# Altium schematic symbol library ST25RU3993_RF_MODULE.SCHLIB: 256 symbols (part 1 of 8)
Pins are listed as number, name and electrical type; pins without a type are passive.

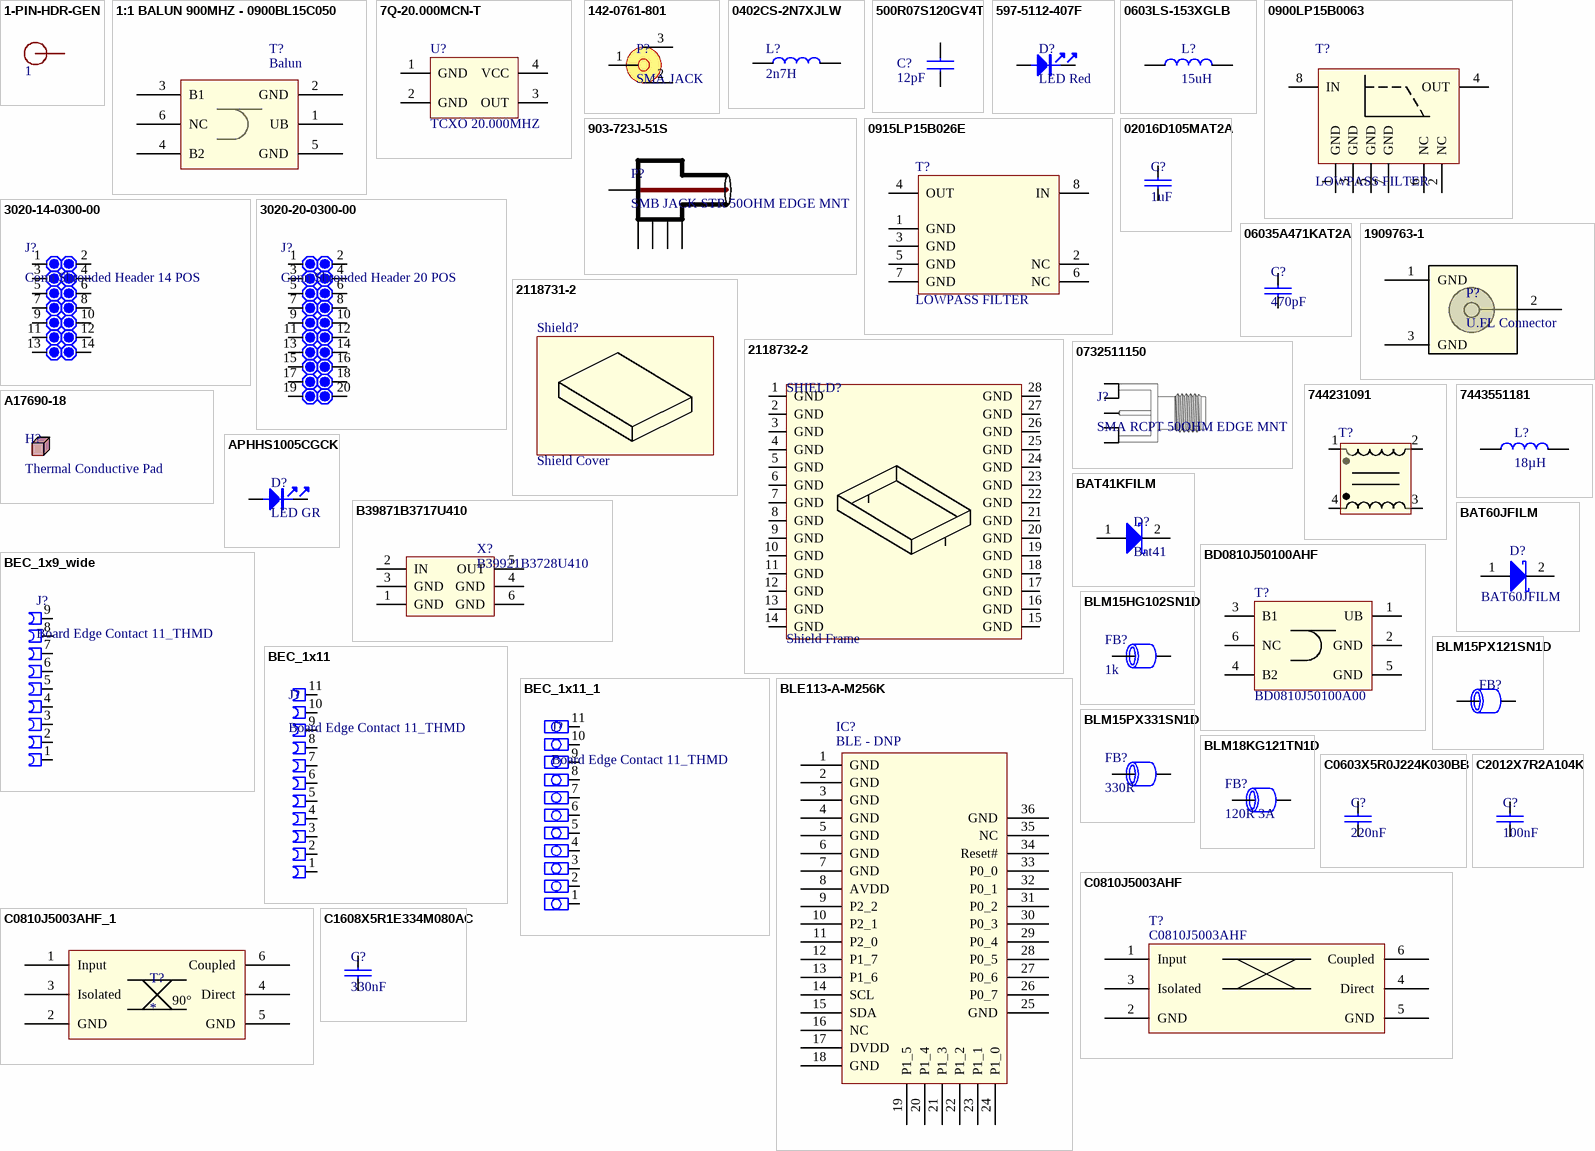
[diagram p0: symbols 1-PIN-HDR-GEN to C2012X7R2A104K]

## 1-PIN-HDR-GEN
designator 1  (value not drawn)
Generic through hole; GateName_1: G$1; SymbolName_1: 1X1-GENERIC; LibraryName: Ziggi; DeviceSetName: 1-PIN-HDR-GEN
footprint 1X01-PIN
pins: 1 P$1

## 1:1 BALUN 900MHZ - 0900BL15C050
designator T?, comment Balun
1:1 BALUN- 900MHZ 50/50 Ohm; Manufacturer: Johanson Technology Inc; Manufacturer Part Number: 0900BL15C050E; Component_Description: BALUN GSM/DCS/PCS/CDMA 900MHZ; Frequency Range: 800 ~ 1000MHz; Phase Difference: 180° ±10; Insertion Loss (Max): 1.2dB; Return Loss (Min): 9.5dB; Supplier 1: Digi-Key; Supplier Part Number 1: 712-1022-1-ND; RoHS: RoHS Compliant; Category: RF/IF and RFID; Stock 1: 0; Pricing 1: 1=0.8, 10=0.672, 25=0.5584, 100=0.4568, 250=0.39336, 500=0.36796, 1000=0.29184 (EUR); Impedance - Unbalanced/Balanced: 50 / 50 Ohm; Package / Case: 0805 (2012 Metric); Mounting Type: Surface Mount; Packaging: Cut Tape (CT); ComponentLink1URL: http://www.johansontechnology.com/images/stories/ip/baluns/JTI_Balun-0900BL15C050_2005-06.pdf; ComponentLink1Description: http://www.johansontechnology.com/images/stories/ip/baluns/JTI_Balun-0900BL15C050_2005-06.pdf
footprint JTI-0900BL15C050 (900 MHz Balun 1:1)
pins: 1 UB, 2 GND, 3 B1, 4 B2, 5 GND, 6 NC

## 7Q-20.000MCN-T
designator U?, comment TCXO 20.000MHZ
OSC TCXO 20.000MHZ CLPD SNWV SMD; Manufacturer: Taitien; Manufacturer Part Number: TXEAADSANF-20.000000; Output: Clipped Sine Wave; Voltage - Supply: 2.8 V ~ 3.3 V; Frequency Stability: ±500ppb; Current - Supply (Max): 2mA; Supplier 1: Digi-Key; Supplier Part Number 1: 1664-1240-1-ND; RoHS: RoHS Compliant; Category: Crystals, Oscillators, Resonators; Stock: 0; Pricing: 1=2.44, 10=2.382, 50=2.2684, 100=1.9848, 500=1.92808 (EUR); Packaging: Cut Tape (CT); Part Status: Active; Type: VCTCXO; Function: -; Absolute Pull Range (APR): -; Operating Temperature: -30°C ~ 85°C; Ratings: -; Mounting Type: Surface Mount; Package / Case: 4-SMD, No Lead; Size / Dimension: 0.126" L x 0.098" W (3.20mm x 2.50mm); Height - Seated (Max): 0.039" (1.00mm); Current - Supply (Disable) (Max): -; ComponentLink1URL: http://www.taitien.com/wp-content/uploads/2015/12/XO-0076_TX.pdf; ComponentLink1Description: http://www.taitien.com/wp-content/uploads/2015/12/XO-0076_TX.pdf
footprint 7Q-20.000MCN-T (XC  7Q-20.000MCN-T  TCXO, 20MHZ, 3.2 X 2.5MM, CLIPPED SINE)
footprint 7Q-20.000MCN-T (Temperature Compensated Crystal Oscillator)
pins: 1 GND, 2 GND, 3 OUT, 4 VCC

## 142-0761-801
designator P?, comment SMA JACK
CONN SMA JACK STR 50OHM EDGE MNT; Manufacturer: Cinch Connectivity Solutions Johnson; Manufacturer Part Number: 142-0761-801; Connector Type: Jack, Female Socket; Contact Termination: Solder; Frequency - Max: 26.5GHz; Body Material: Brass; Body Finish: Gold; Dielectric Material: Polytetrafluoroethylene (PTFE); Center Contact Material: Beryllium Copper; Voltage Rating: 170V; Mating Cycles: 500; Supplier 1: Digi-Key; Supplier Part Number 1: J797-ND; RoHS: RoHS Compliant; Category: Connectors, Interconnects; Stock: 14705; Pricing: 1=6.84, 10=6.56, 25=5.9892, 50=5.704, 100=5.4187, 250=4.84836, 500=4.56314, 1000=3.99276 (EUR); Packaging: Bulk; Part Status: Active; Connector Style: SMA; Shield Termination: Solder; Impedance: 50 Ohm; Mounting Type: Board Edge, End Launch; Mounting Feature: -; Cable Group: -; Fastening Type: Threaded; Features: -; Housing Color: Gold; Ingress Protection: -; Includes: -; Center Contact Plating: Gold; Operating Temperature: -65°C ~ 165°C; Insertion Loss: -; ComponentLink1URL: http://www.belfuse.com/resources/Johnson/drawings/dr-142-0761-801.pdf; ComponentLink1Description: http://www.belfuse.com/resources/Johnson/drawings/dr-142-0761-801.pdf
footprint SOCKET_TH_SMA_EDGE (Johnson Component 142-0761-821)
pins: 1, 2, 3

## 0402CS-2N7XJLW
designator L?, comment 2n7H
COILCRAFT - 0402CS-2N7XJLW - HF-INDUKTIVIT 2.7NH, 5%,10.4GHZ SMD; Induktivität: 2.7; DC-Nennstrom: 640; Bauform: 0402 [Metrisch 1005]; Bauart der Induktivität: Drahtgewickelt; DC-Widerstand, max.: 0.12; Eigenresonanzfrequenz, min.: 10.4; Verpackung: Gurtabschnitt; SVHC: No SVHC (12-Jan-2017); Qualifizierungsstandard der Automobilindustrie: AEC-Q200; Supplier 1: Farnell; Manufacturer: COILCRAFT; Manufacturer Part Number: 0402CS-2N7XJLW; RoHS: Y-EX; Stock: 2075; Pricing 1: 1=1.11, 200=0.746, 500=0.497, 1000=0.348 (EUR); Produktpalette: Baureihe 0402; Induktivitätstoleranz: ± 5%; ComponentLink1URL: http://www.farnell.com/datasheets/1681871.pdf; ComponentLink1Description: http://www.farnell.com/datasheets/1681871.pdf; Supplier Part Number 1: 2285704
footprint L0402-RF
pins: 1, 2

## 500R07S120GV4T
designator C?, comment 12pF
CAP CER 12PF 50V NP0 0402; Manufacturer: Johanson Technology Inc.; Manufacturer Part Number: 500R07S120GV4T; Tolerance: ±2%; Temperature Coefficient: C0G, NP0; Supplier 1: Digi-Key; Supplier Part Number 1: 712-1256-1-ND; RoHS: RoHS Compliant; Category: Capacitors; Stock 1: 94533; Pricing 1: 1=0.31, 10=0.215, 25=0.1764, 50=0.1504, 100=0.129, 250=0.10748, 500=0.09674, 1000=0.0817, 5000=0.0731 (EUR); Packaging: Cut Tape (CT); Part Status: Active; Capacitance: 12pF; Voltage - Rated: 50V; Operating Temperature: -55°C ~ 125°C; Features: High Q, Low Loss; Ratings: -; Applications: RF, Microwave, High Frequency; Mounting Type: Surface Mount, MLCC; Package / Case: 0402 (1005 Metric); Size / Dimension: 0.040" L x 0.020" W (1.02mm x 0.51mm); Height - Seated (Max): -; Thickness (Max): 0.024" (0.61mm); Lead Spacing: -; Lead Style: -; ComponentLink1URL: http://www.johansontechnology.com/downloads/JTI-CAT-MLCC-HighQ.pdf; ComponentLink1Description: http://www.johansontechnology.com/downloads/JTI-CAT-MLCC-HighQ.pdf
footprint C0402-RF
pins: 1, 2

## 597-5112-407F
designator D?, comment LED Red
LED Uni-Color Red 660nm 2-Pin Chip 0603(1608Metric) T/R; Manufacturer: Dialight; Manufacturer Part Number: 597-5112-407F; Lens Color: White; Luminous Intensity: 11.7mcd; Viewing Angle: 152°; Forward Voltage: 1.7V; Lens Style: Diffused,Rectangular; Forward Current: 20mA; Lens Transparency: Diffused; Dominant Wavelength: 647nm; Number of Elements: 1; Power Dissipation: 57.5mW; Supplier 1: Arrow; Supplier Part Number 1: 597-5112-407F; Stock: 1175; Pricing: 1 = 0.63390, 10 = 0.42340, 25 = 0.42280, 100 = 0.28560, 250 = 0.28540, 500 = 0.28520, 1000 = 0.22780 (USD); Mount: Surface Mount; Case/Package: 0603; Number of Pins: 2; Color: Red; Case Code (Metric): 1608; Case Code (Imperial): 0603; Min Operating Temperature: -30°C; Max Operating Temperature: 85°C; Wavelength: 660nm; Packaging: Tape and Reel; Package Quantity: 1; Illumination Color: Red; Test Current: 20mA; Voltage Rating (DC): 1.7V; Input Current: 20mA; Number of LEDs: 1; Length: 1.6mm; Height: 0.7mm; Width: 0.8mm; Depth: 0.8mm; Radiation Hardening: No; REACH SVHC: No SVHC; Lead Free: Lead Free; ComponentLink1URL: http://www.dialightsignalsandcomponents.com/Assets/Brochures_And_Catalogs/Indication/SMT_selector_guide.pdf; ComponentLink1Description: http://www.dialightsignalsandcomponents.com/Assets/Brochures_And_Catalogs/Indication/SMT_selector_guide.pdf; ComponentLink2URL: http://www.dialight.com/Assets/Brochures_And_Catalogs/Indication/597-xxxx-4xx.pdf; ComponentLink2Description: http://www.dialight.com/Assets/Brochures_And_Catalogs/Indication/597-xxxx-4xx.pdf; ComponentLink3URL: http://www.mouser.com/ds/2/109/SMT_selector_guide-267443.pdf; ComponentLink3Description: http://www.mouser.com/ds/2/109/SMT_selector_guide-267443.pdf; ComponentLink4URL: http://www.onlinecomponents.com/productFiles/mf-DIA/597-xxxx-4xx.pdf; ComponentLink4Description: http://www.onlinecomponents.com/productFiles/mf-DIA/597-xxxx-4xx.pdf; ComponentLink5URL: https://www.verical.com/server-webapp/html/getDatasheet?partID=87981; ComponentLink5Description: https://www.verical.com/server-webapp/html/getDatasheet?partID=87981; ComponentLink6URL: http://datasheet.octopart.com/597-5112-407F-Dialight-datasheet-5312680.pdf; ComponentLink6Description: http://datasheet.octopart.com/597-5112-407F-Dialight-datasheet-5312680.pdf; ComponentLink7URL: http://datasheet.octopart.com/597-5112-407F-Dialight-datasheet-12521332.pdf; ComponentLink7Description: http://datasheet.octopart.com/597-5112-407F-Dialight-datasheet-12521332.pdf; ComponentLink8URL: http://datasheet.octopart.com/597-5112-407F-Dialight-datasheet-17224103.pdf; ComponentLink8Description: http://datasheet.octopart.com/597-5112-407F-Dialight-datasheet-17224103.pdf; ComponentLink9URL: http://datasheet.octopart.com/597-5112-407F-Dialight-datasheet-158501.pdf; ComponentLink9Description: http://datasheet.octopart.com/597-5112-407F-Dialight-datasheet-158501.pdf; ComponentLink10URL: http://datasheet.octopart.com/5975112407F-Dialight-datasheet-45646.pdf; ComponentLink10Description: http://datasheet.octopart.com/5975112407F-Dialight-datasheet-45646.pdf
footprint 597-5112-407F (0603 Single Color LED Red)
pins: 1, 2

## 0603LS-153XGLB
designator L?, comment 15uH
COILCRAFT - 0603LS-153XGLB - HF-INDUKTIVIT 15UH, 2%, 23MHZ SMD; Induktivität: 15; DC-Nennstrom: 170; Bauform - Hochfrequenzinduktivität: 0603 [Metrisch 1608]; Bauart der Induktivität: Drahtgewickelt; DC-Widerstand, max.: 7.1; Eigenresonanzfrequenz, min.: 23; SVHC: No SVHC (12-Jan-2017); Verpackung: Gurtabschnitt<!--FANDB--><div class="features-and-benefits-container"></div>; Supplier 1: Farnell; Supplier Part Number 1: 2286278; Manufacturer: COILCRAFT; Manufacturer Part Number: 0603LS-153XGLB; RoHS: Y-EX; Pricing: 1=1.26, 200=0.897, 500=0.688 (EUR); Produktpalette: Baureihe 0603; Induktivitätstoleranz: ± 2%; Bauform - Induktivität: 0603 [Metrisch 1608]; ComponentLink1URL: http://www.farnell.com/datasheets/1681882.pdf; ComponentLink1Description: http://www.farnell.com/datasheets/1681882.pdf
footprint L0603-ss (0603LS Surface Mount Inductors)
pins: 1, 2

## 0900LP15B0063
designator T?, comment LOWPASS FILTER
FILTER LOWPASS 863-960MHZ; Manufacturer: Johanson Technology Inc.; Manufacturer Part Number: 0900LP15B0063E; Supplier 1: Digi-Key; Supplier Part Number 1: 712-1635-1-ND; RoHS: RoHS Compliant; Category: Filters; Stock: 11994; Pricing: 1=0.44, 10=0.404, 25=0.3852, 50=0.373, 100=0.3605, 250=0.34176, 500=0.28586, 1000=0.22184 (EUR); Part Status: Active; ComponentLink1URL: https://www.johansontechnology.com/datasheets/low-pass-filters/0900LP15B0063.pdf; ComponentLink1Description: https://www.johansontechnology.com/datasheets/low-pass-filters/0900LP15B0063.pdf
footprint JTI-0900LP15B0063 (900 MHz Low Pass Filter)
pins: 1 GND, 2 NC, 3 GND, 4 OUT, 5 GND, 6 NC, 7 GND, 8 IN

## 903-723J-51S
designator P?, comment SMB JACK STR 50OHM EDGE MNT
CONN SMB JACK STR 50OHM EDGE MNT; Manufacturer: Amphenol RF Division; Manufacturer Part Number: 903-723J-51S; Connector Type: Jack, Male Pin; Contact Termination: Solder; Shield Termination: Crimp; Body Material: Zinc Die Cast; Body Finish: Tin; Center Contact Plating: Gold; Dielectric Material: Polytetrafluoroethylene (PTFE); Center Contact Material: Brass; Mating Cycles: 100; Insertion Loss: 0.3dB; Supplier 1: Digi-Key; Supplier Part Number 1: 903-723J-51S-ND; RoHS: RoHS Compliant; Category: Connectors, Interconnects; Stock: 0; Pricing: 1000=1.94114 (EUR); Packaging: Bulk; Part Status: Active; Connector Style: SMB; Impedance: 50 Ohm; Mounting Type: Board Edge, End Launch; Mounting Feature: -; Cable Group: -; Fastening Type: Snap-On; Features: -; Housing Color: Silver; Ingress Protection: -; Includes: -; Operating Temperature: -65°C ~ 165°C; ComponentLink1URL: http://www.amphenolrf.com/media/downloads/87/C903-723J-51S.pdf; ComponentLink1Description: http://www.amphenolrf.com/media/downloads/87/C903-723J-51S.pdf
footprint 903-723J-51S (Amphenol - SOCKET_TH_SMB_EDGE)
pins: 1, 2, 3, 4, 5

## 0915LP15B026E
designator T?, comment LOWPASS FILTER
FILTER LOWPASS GSM/CDMA 915MHZ; Manufacturer: Johanson Technology Inc.; Manufacturer Part Number: 0915LP15B026E; Frequency: 915MHz Center; Bandwidth: 26MHz; Insertion Loss: 0.5dB; Supplier 1: Digi-Key; Supplier Part Number 1: 712-1122-1-ND; RoHS: RoHS Compliant; Category: Filters; Stock 1: 3000; Pricing 1: 1=0.42, 10=0.396, 25=0.3776, 50=0.3654, 100=0.3532, 250=0.33496, 500=0.28014, 1000=0.21741 (EUR); Packaging: Cut Tape (CT); Part Status: Active; Filter Type: Low Pass; Ripple: -; Package / Case: 0805 (2012 Metric), 8 PC Pad; Mounting Type: Surface Mount; Height (Max): 0.037" (0.95mm); Size / Dimension: 0.079" L x 0.049" W (2.00mm x 1.25mm); ComponentLink1URL: http://www.johansontechnology.com/datasheets/low-pass-filters/0915LP15B026.pdf; ComponentLink1Description: http://www.johansontechnology.com/datasheets/low-pass-filters/0915LP15B026.pdf
footprint JTI-0915LP15B026 (915 MHz Low Pass Filter)
pins: 1 GND, 2 NC, 3 GND, 4 OUT, 5 GND, 6 NC, 7 GND, 8 IN

## 02016D105MAT2A
designator C?, comment 1uF
CAP CER 1UF 6.3V X5R 0201; Manufacturer: AVX Corporation; Manufacturer Part Number: 02016D105MAT2A; Tolerance: ±20%; Notification: Current market demand for these product types have resulted in fluctuating and extending lead times. Lead times may differ.; Supplier 1: Digi-Key; Supplier Part Number 1: 478-7862-1-ND; RoHS: RoHS Compliant; Category: Capacitors; Stock: 0; Pricing: 1=0 (EUR); Packaging: Cut Tape (CT); Part Status: Active; Voltage - Rated: 6.3V; Temperature Coefficient: X5R; Operating Temperature: -55°C ~ 85°C; Features: -; Ratings: -; Applications: General Purpose; Mounting Type: Surface Mount, MLCC; Package / Case: 0201 (0603 Metric); Size / Dimension: 0.024" L x 0.012" W (0.60mm x 0.30mm); Height - Seated (Max): -; Thickness (Max): 0.013" (0.33mm); Lead Spacing: -; Lead Style: -; ComponentLink1URL: http://datasheets.avx.com/cx5r.pdf; ComponentLink1Description: http://datasheets.avx.com/cx5r.pdf
footprint C0201-RF
pins: 1, 2

## 3020-14-0300-00
designator J?, comment Conn Shrouded Header 14 POS
Conn Shrouded Header HDR 14 POS 2.54mm Solder ST SMD; Manufacturer: CNC Tech; Manufacturer Part Number: 3020-14-0300-00; Number of Positions: 14; Connector Type: Male Pin; Pitch: 0.1inch; Supplier 1: Digi-Key; Supplier Part Number 1: 1175-1622-ND; Stock: 5558; Pricing: 1 = 0.70000, 10 = 0.66000, 100 = 0.50600, 500 = 0.44000, 1200 = 0.36300, 6000 = 0.31900, 10800 = 0.29700 (USD); Mount: Surface Mount; Contact Plating: Gold; Package Quantity: 1200; Number of Rows: 2; Packaging: Tray; Termination: Solder; Row Spacing: 0.1inch; ComponentLink1URL: http://cnctech.us/idcmatching2.pdf; ComponentLink1Description: http://cnctech.us/idcmatching2.pdf
footprint 3020-14-0300-00 (Connector Header Surface Mount 14 position 0.100" (2.54mm))
pins: 1, 2, 3, 4, 5, 6, 7, 8, 9, 10, 11, 12, 13, 14

## 3020-20-0300-00
designator J?, comment Conn Shrouded Header 20 POS
Conn Shrouded Header HDR 20 POS 2.54mm Solder ST SMD; Manufacturer: CNC Tech; Manufacturer Part Number: 3020-20-0300-00; Number of Positions: 20; Connector Type: Male Pin; Pitch: 0.1inch; Supplier 1: Digi-Key; Supplier Part Number 1: 1175-1623-ND; Stock: 26971; Pricing: 1 = 0.81000, 10 = 0.71400, 100 = 0.61600, 960 = 0.49000, 1920 = 0.42000, 5760 = 0.39200, 10560 = 0.37240 (USD); Mount: Surface Mount; Contact Plating: Gold; Package Quantity: 960; Number of Rows: 2; Packaging: Tray; Termination: Solder; Row Spacing: 0.1inch; ComponentLink1URL: http://cnctech.us/idcmatching2.pdf; ComponentLink1Description: http://cnctech.us/idcmatching2.pdf
footprint 3020-20-0300-00 (Connector Header Surface Mount 20 position 0.100" (2.54mm))
footprint 3020-20-0300-00 (Connector Header Surface Mount 20 position 0.100" (2.54mm))
pins: 1, 2, 3, 4, 5, 6, 7, 8, 9, 10, 11, 12, 13, 14, 15, 16, 17, 18, 19, 20

## 06035A471KAT2A
designator C?, comment 470pF
CAP CER 470PF 50V NP0 0603; Manufacturer: Kyocera AVX; Manufacturer Part Number: 06035A471KAT2A; Dielectric Material: Ceramic; Tolerance: 10%; Dielectric: C0G; Insulation Resistance: 100GR; Supplier 1: Digi-Key; Supplier Part Number 1: 478-3720-1-ND; RoHS: Yes; Stock: 10666; Pricing: 1 = 0.24000, 10 = 0.17300, 100 = 0.08130, 500 = 0.05700, 1000 = 0.04719 (USD); Mount: Surface Mount; Case/Package: 0603; Number of Pins: 2; Weight: 7.1E-05oz; Case Code (Metric): 1608; Case Code (Imperial): 0603; Contact Plating: Matte,Tin; Min Operating Temperature: -55°C; Max Operating Temperature: 125°C; Capacitance: 470pF; Packaging: Tape and Reel; Voltage Rating (DC): 50V; Voltage Rating: 50V; Termination: SMD/SMT; Package Quantity: 1; Voltage: 50V; Length: 1.6mm; Height: 0.86mm; Depth: 0.81mm; Width: 0.032inch; Thickness: 0.035inch; Radiation Hardening: No; REACH SVHC: No SVHC; Lead Free: Lead Free; ComponentLink1URL: http://catalogs.avx.com/SurfaceMount.pdf; ComponentLink1Description: http://catalogs.avx.com/SurfaceMount.pdf; ComponentLink2URL: http://datasheets.avx.com/C0GNP0-Dielectric.pdf; ComponentLink2Description: http://datasheets.avx.com/C0GNP0-Dielectric.pdf; ComponentLink3URL: http://www.avxcorp.com/docs/Catalogs/ccog.pdf; ComponentLink3Description: http://www.avxcorp.com/docs/Catalogs/ccog.pdf; ComponentLink4URL: http://www.farnell.com/datasheets/84496.pdf; ComponentLink4Description: http://www.farnell.com/datasheets/84496.pdf; ComponentLink5URL: http://www.farnell.com/datasheets/1796416.pdf; ComponentLink5Description: http://www.farnell.com/datasheets/1796416.pdf; ComponentLink6URL: http://www.alliedelec.com/m/d/5af77e5339fff8f6eaeadc15d0e28f67.pdf; ComponentLink6Description: http://www.alliedelec.com/m/d/5af77e5339fff8f6eaeadc15d0e28f67.pdf
footprint C0603
pins: 1, 2

## 1909763-1
designator P?, comment U.FL Connector
Conn Coaxial PL Solder ST SMD Gold Over Nickel Reel; Manufacturer: TE Connectivity AMP; Manufacturer Part Number: 1909763-1; Body Material: Polymer,Liquid Crystal Polymer; Dielectric Material: Polymer; Impedance: 50R; Max Frequency: 6GHz; Connector Type: Jack; Gender: Female; Connector System: Cable-to-Board; Number of Positions: 1; Sealable: No (Without); Supplier 1: Digi-Key; Supplier Part Number 1: A118077DKR-ND; Stock: 127620; Pricing: 1=0.49, 10=0.462, 100=0.3542, 500=0.308, 1000=0.2541 (USD); Mount: Panel; Case/Package: SMD/SMT; Contact Plating: Gold; Contact Material: Copper Alloy; Housing Colour: Beige; Body Plating: Gold; Insulation Material: Thermoplastic; Min Operating Temperature: -40°C; Max Operating Temperature: 194°C; Packaging: Tape and Reel; Package Quantity: 1; Fastening Type: Push,Pull; Termination: SMD/SMT; Orientation: Straight; Frequency: 6GHz; Length: 3mm; Radiation Hardening: No; ELV: Compliant; Lead Free: Lead Free; ComponentLink1URL: https://datasheet.ciiva.com/16312/eng-cd-1909763-b-16312469.pdf; ComponentLink1Description: https://datasheet.ciiva.com/16312/eng-cd-1909763-b-16312469.pdf; ComponentLink2URL: https://datasheet.ciiva.com/16469/eng-cd-1909763-b-16469221.pdf; ComponentLink2Description: https://datasheet.ciiva.com/16469/eng-cd-1909763-b-16469221.pdf; ComponentLink3URL: https://datasheet.ciiva.com/9423/eng-cd-1909763-b-9423785.pdf; ComponentLink3Description: https://datasheet.ciiva.com/9423/eng-cd-1909763-b-9423785.pdf; ComponentLink4URL: https://datasheet.ciiva.com/29191/eng-cd-1909763-b1-basefilename-29191146.pdf; ComponentLink4Description: https://datasheet.ciiva.com/29191/eng-cd-1909763-b1-basefilename-29191146.pdf; ComponentLink5URL: https://datasheet.ciiva.com/29191/eng-cd-1909763-b1-basefilename-29191148.pdf; ComponentLink5Description: https://datasheet.ciiva.com/29191/eng-cd-1909763-b1-basefilename-29191148.pdf
footprint U FL Socket - HRS - Surface Mount
pins: 1 GND, 2 Signal, 3 GND

## 2118731-2
designator Shield?, comment Shield Cover
STD SHIELD COVER, CRS-51.30X38.6; Manufacturer: TE Connectivity; Manufacturer Part Number: 2118731-2; RoHS: No; Stock 1: 9381; Pricing 1: 1=0,63000, 10=0,55200, 25=0,51840, 100=0,42300, 250=0,39292, 500=0,33440, 1000=0,26752, 2500=0,24244, 5000=0,22572 (USD); Mount: Surface Mount; Packaging: Bulk; ComponentLink1URL: https://www.te.com/commerce/DocumentDelivery/DDEController?Action=srchrtrv&DocNm=2118731&DocType=Customer+Drawing&DocLang=English&src-supplier=Digi-Key; ComponentLink1Description: https://www.te.com/commerce/DocumentDelivery/DDEController?Action=srchrtrv&DocNm=2118731&DocType=Customer+Drawing&DocLang=English&src-supplier=Digi-Key; Supplier 1: Digi-Key; Supplier Part Number 1: A126136-ND

## 2118732-2
designator SHIELD?, comment Shield Frame
RF Shield 51.1 x 38.4 x 6.5; Manufacturer: TE Connectivity AMP Connectors; Manufacturer Part Number: 2118732-2; Supplier 1: Digi-Key; Supplier Part Number 1: A126160TR-ND; RoHS: RoHS Compliant; Category: RF/IF and RFID; Stock: 9540; Pricing: 170=0.84747, 340=0.74368, 510=0.6572, 850=0.57418, 1190=0.51884, 4250=0.48425, 8500=0.46004, 17000=0.44274 (EUR); Packaging: Tape & Reel (TR); Part Status: Active; Type: Frame; Height - Overall: 0.200" (5.08mm); Length - Overall: 2.000" (50.80mm); Width - Overall: 1.500" (38.10mm); Ventilation: -; Mounting Type: Surface Mount; ComponentLink1URL: http://www.te.com/commerce/DocumentDelivery/DDEController?Action=srchrtrv&DocNm=2118732&DocType=Customer+Drawing&DocLang=English; ComponentLink1Description: http://www.te.com/commerce/DocumentDelivery/DDEController?Action=srchrtrv&DocNm=2118732&DocType=Customer+Drawing&DocLang=English
footprint RF Shield - 50.8 x 38.1 mm (2118732-2)
pins: 1 GND, 2 GND, 3 GND, 4 GND, 5 GND, 6 GND, 7 GND, 8 GND, 9 GND, 10 GND, 11 GND, 12 GND, 13 GND, 14 GND, 15 GND, 16 GND, 17 GND, 18 GND, 19 GND, 20 GND, 21 GND, 22 GND, 23 GND, 24 GND, 25 GND, 26 GND, 27 GND, 28 GND

## 0732511150
designator J?, comment SMA RCPT 50OHM EDGE MNT
SMA Connector Jack, Female Socket 50 Ohm Board Edge, End Launch Solder; Manufacturer: ITT C&K; Manufacturer Part Number: PCM12SMTR; Mechanical Life: 10000Cycles; Actuator Material: Nylon,Polyamide; Voltage Rating (AC): 6V; Throw Configuration: SPDT; Contact Resistance: 70mR; Max Current Rating: 300mA; Insulation Resistance: 100mR; Switch Travel: 1.5mm; Switch Function: On-On; Actuator Type: Standard; Supplier 1: Digi-Key; Supplier Part Number 1: 401-2016-1-ND; RoHS: Yes; Stock: 58488; Pricing: 1 = 0.91000, 10 = 0.87000, 25 = 0.85240, 50 = 0.76160, 100 = 0.72530, 250 = 0.70720, 500 = 0.59840, 1000 = 0.58027 (USD); Mount: Surface Mount; Contact Material: Copper,Copper Alloy,Silver; Contact Plating: Silver; Min Operating Temperature: -20°C; Max Operating Temperature: 85°C; Package Quantity: 1; Packaging: Tape and Reel; Voltage Rating (DC): 6V; Max Voltage Rating (DC): 6V; Contact Current Rating: 300mA; Current Rating: 300mA; Termination: Gull Wing; Orientation: Right Angle; Length: 7.7mm; Width: 6.7mm; Depth: 5mm; Actuator Length: 1.5mm; REACH SVHC: No SVHC; Lead Free: Lead Free; ComponentLink1URL: https://www.ckswitches.com/media/1424/pcm.pdf; ComponentLink1Description: https://www.ckswitches.com/media/1424/pcm.pdf; ComponentLink2URL: https://products.avnet.com/shop/en/asia/switches-and-relays/switches/slide-switch/www.ckswitches.com/media/1424/pcm.pdf; ComponentLink2Description: https://products.avnet.com/shop/en/asia/switches-and-relays/switches/slide-switch/www.ckswitches.com/media/1424/pcm.pdf; ComponentLink3URL: http://www1.futureelectronics.com/doc/C%20&%20K%20COMPONENTS/PCM12SMTR.pdf; ComponentLink3Description: http://www1.futureelectronics.com/doc/C%20&%20K%20COMPONENTS/PCM12SMTR.pdf; ComponentLink4URL: http://www.farnell.com/datasheets/1789487.pdf; ComponentLink4Description: http://www.farnell.com/datasheets/1789487.pdf
footprint 0732511150 (CONN SMA RCPT STR 50OHM EDGE MNT)
pins: 1 Signal, 2 GND, 3 GND, 4 GND, 5 GND

## 744231091
designator T?  (value not drawn)
CHOKE COM MODE 90 OHM .37A SMD; Manufacturer: Wurth Electronics Inc.; Filter Type: Signal Line; Number of Lines: 2; Current Rating (Max): 370mA; DC Resistance (DCR) (Max): 300 mOhm; Voltage Rating - DC: 50V; Supplier 1: Digi-Key; Supplier Part Number 1: 732-3198-1-ND; Manufacturer Part Number: 744231091; RoHS: RoHS Compliant; Category: Filters; Stock: 27430; Pricing: 1=0.95, 10=0.903, 50=0.8426, 100=0.797, 500=0.76744, 1000=0.63221 (EUR); Packaging: Cut Tape (CT); Part Status: Active; Voltage Rating - AC: -; Operating Temperature: -40°C ~ 125°C; Ratings: -; Approvals: -; Features: -; Mounting Type: Surface Mount; Size / Dimension: 0.079" L x 0.047" W (2.00mm x 1.20mm); Height (Max): 0.055" (1.40mm); Package / Case: Horizontal, 4 PC Pad; ComponentLink1URL: http://katalog.we-online.de/pbs/datasheet/744231091.pdf; ComponentLink1Description: http://katalog.we-online.de/pbs/datasheet/744231091.pdf
footprint 744231091 (SMD Common Mode Noise Suppressor)
footprint 744231091 (SMD Common Mode Noise Suppressor)
pins: 1, 2, 3, 4

## 7443551181
designator L?, comment 18µH
WURTH ELEKTRONIK         7443551181             Surface Mount Power Inductor, WE-HCI Series, 18 H, 7.5 A, 7.5 A, Shielded, 0.022 ohm; Manufacturer: Wurth Electronics; Tolerance: 20%; Self Resonant Frequency: 16MHz; Current Rating: 7.5A; Inductance: 18uh; DC Resistance (DCR): 22mR; Test Frequency: 100kHz; Series Resistance: 22R; Resistance: 1MR; Power Rating: 100mW; Temperature Coefficient: 100ppm/°C; Voltage Rating: 75V; Supplier 1: Digi-Key; Supplier Part Number 1: 732-3880-1-ND; Manufacturer Part Number: 7443551181; RoHS: Yes; Stock: 1444; Pricing: 1 = 3.27000, 10 = 3.20300, 50 = 2.95700, 100 = 2.83400, 200 = 2.64900 (USD); Mount: Surface Mount; Case/Package: 1365; Min Operating Temperature: -40°C; Max Operating Temperature: 150°C; Packaging: Tape and Reel; Shielding: Shielded; Package Quantity: 400; Saturation Current: 7.5A; Inductance Tolerance: 20%; Max DC Current: 7.5A; Termination: SMD/SMT; Composition: Wirewound; RMS Current (Irms): 7.5A; Length: 13.2mm; Height: 6.2mm; Width: 12.8mm; Height - Seated (Max): 0.256inch; Depth: 12.8mm; REACH SVHC: Unknown; Lead Free: Lead Free; ComponentLink1URL: http://www.mouser.com/ds/2/445/7443551181-539491.pdf; ComponentLink1Description: http://www.mouser.com/ds/2/445/7443551181-539491.pdf; ComponentLink2URL: http://katalog.we-online.de/pbs/datasheet/7443551181.pdf; ComponentLink2Description: http://katalog.we-online.de/pbs/datasheet/7443551181.pdf; ComponentLink3URL: https://katalog.we-online.de/pbs/datasheet/7443551181.pdf; ComponentLink3Description: https://katalog.we-online.de/pbs/datasheet/7443551181.pdf; ComponentLink4URL: http://www.farnell.com/datasheets/1735906.pdf; ComponentLink4Description: http://www.farnell.com/datasheets/1735906.pdf; ComponentLink5URL: http://documents.rs-components.com/techlib://itc_doclist_GB.htm?stockno=7362087; ComponentLink5Description: http://documents.rs-components.com/techlib://itc_doclist_GB.htm?stockno=7362087; ComponentLink6URL: http://www.produktinfo.conrad.com/datenblaetter/1000000-1099999/001087491-da-01-ml-WE_HCI_SMD_HOCHSTROMIND_7443551181_de_en.pdf; ComponentLink6Description: http://www.produktinfo.conrad.com/datenblaetter/1000000-1099999/001087491-da-01-ml-WE_HCI_SMD_HOCHSTROMIND_7443551181_de_en.pdf; Supplier 2: Future Electronics; Supplier Part Number 2: CRCW06031M00FKEA-CUTT; Number of Pins: 2; Weight: 7.1E-05oz; Case Code (Imperial): 0603; Case Code (Metric): 1608; Contact Plating: Tin; Number of Terminations: 2; Max Power Dissipation: 100mW; Military Standard: Not; Voltage Rating (DC): 75V; Features: Automotive AEC-Q200; Radiation Hardening: No; ComponentLink7URL: http://uk.rs-online.com/webdocs/0d98/0900766b80d98afc.pdf; ComponentLink7Description: http://uk.rs-online.com/webdocs/0d98/0900766b80d98afc.pdf; ComponentLink8URL: https://www.distrelec.biz/Web/Downloads/a_/en/flD-CRCW-e3_data_en.pdf?mime=application%2Fpdf; ComponentLink8Description: https://www.distrelec.biz/Web/Downloads/a_/en/flD-CRCW-e3_data_en.pdf?mime=application%2Fpdf; ComponentLink9URL: http://www.vishay.com/docs/20035/dcrcwe3.pdf; ComponentLink9Description: http://www.vishay.com/docs/20035/dcrcwe3.pdf; ComponentLink10URL: http://www.farnell.com/datasheets/2111203.pdf; ComponentLink10Description: http://www.farnell.com/datasheets/2111203.pdf; ComponentLink11URL: http://www.farnell.com/datasheets/125364.pdf; ComponentLink11Description: http://www.farnell.com/datasheets/125364.pdf
footprint L1365 (Precision Wire Wound Inductor, 2-Leads, Body 13.00x12.80mm, IPC Medium Density)
pins: 1, 2

## A17690-18
designator H?, comment Thermal Conductive Pad
Thermal Conductive Pad 5 x 4 mm; Manufacturer: Laird Thermal; Manufacturer Part Number: A17690-18; Shape: Square; Thermal Conductivity: 5W/(m·K); Supplier 1: Digi-Key; RoHS: No; Stock 1: 3; Pricing 1: 1=232,85000, 10=217,32900, 25=201,80560, 50=197,92460, 100=194,04380, 250=186,28200 (USD); Material: Silicone; Color: Pink; ComponentLink1URL: https://assets.lairdtech.com/home/brandworld/files/A17758-00%20Tflex%20HD700%20DS.pdf?src-supplier=Digi-Key; ComponentLink1Description: https://assets.lairdtech.com/home/brandworld/files/A17758-00%20Tflex%20HD700%20DS.pdf?src-supplier=Digi-Key; Supplier Part Number 1: 926-1725-ND

## APHHS1005CGCK
designator D?, comment LED GR
APHHS1005CGCK Green LED; 570 nm 1005 (0402) Clear; Rectangle Lens SMD package; Manufacturer: Kingbright; Forward Voltage: 2.1V; Luminous Intensity: 50mcd; Test Current: 20mA; Dominant Wavelength: 570nm; Lens Style: Clear,Flat; Viewing Angle: 120°; Number of LEDs: 1; Supplier 1: Future Electronics; Supplier Part Number 1: APHHS1005CGCK-CUTT; Manufacturer Part Number: APHHS1005CGCK; Stock: 1925; Pricing: 1 = 0.14000, 50 = 0.11800, 100 = 0.11500, 250 = 0.11000, 500 = 0.10100 (USD); Mount: Surface Mount; Case/Package: 0402; Number of Pins: 2; Color: Green; Lens Color: Clear; Case Code (Metric): 1005; Case Code (Imperial): 0402; Min Operating Temperature: -40°C; Max Operating Temperature: 85°C; Packaging: Tape and Reel; Forward Current: 20mA; Wavelength: 570nm; Package Quantity: 2000; Illumination Color: Green; Length: 1mm; Height: 0.6mm; Width: 0.5mm; Lead Free: Lead Free; ComponentLink1URL: http://www.kingbrightusa.com/images/catalog/SPEC/APHHS1005CGCK.pdf; ComponentLink1Description: http://www.kingbrightusa.com/images/catalog/SPEC/APHHS1005CGCK.pdf; ComponentLink2URL: http://datasheet.octopart.com/APHHS1005CGCK-Kingbright-datasheet-17019150.pdf; ComponentLink2Description: http://datasheet.octopart.com/APHHS1005CGCK-Kingbright-datasheet-17019150.pdf; ComponentLink3URL: http://datasheet.octopart.com/APHHS1005CGCK-Kingbright-datasheet-9949529.pdf; ComponentLink3Description: http://datasheet.octopart.com/APHHS1005CGCK-Kingbright-datasheet-9949529.pdf; ComponentLink4URL: http://datasheet.octopart.com/APHHS1005CGCK-Kingbright-datasheet-108048832.pdf; ComponentLink4Description: http://datasheet.octopart.com/APHHS1005CGCK-Kingbright-datasheet-108048832.pdf
footprint APHHS1005CGCK (1.0X0.5mm SMD CHIP LED LAMP Green)
pins: 1, 2

## B39871B3717U410
designator X?, comment B39921B3728U410
FILTER SAW 915MHZ SMD; Manufacturer: EPCOS (TDK); Resistance (Ohms): 100; Tolerance: ±1%; Power (Watts): 0.063W, 1/16W; Temperature Coefficient: ±100ppm/°C; Exact Component Match: yes; Supplier 1: Digi-Key; Supplier Part Number 1: 495-7429-1-ND; Manufacturer Part Number: B39921B3728U410; RoHS: RoHS Compliant; Category: Filters; Stock 1: 7182; Pricing 1: 1=1.9, 10=1.838, 100=1.2867, 250=1.1642, 500=1.13358, 1000=0.9804 (EUR); Package / Case: 0402 (1005 Metric); Packaging: Cut Tape (CT); ComponentLink1URL: http://en.tdk.eu/inf/40/ds/ae/B3728.pdf; ComponentLink1Description: http://en.tdk.eu/inf/40/ds/ae/B3728.pdf; Part Status: Active; Supplier 2: Digi-Key; Supplier Part Number 2: 311-100LRCT-ND; Stock 2: 1895343; Pricing 2: 1=0.09, 10=0.012, 25=0.0088, 100=0.0049, 250=0.00372, 500=0.00296, 1000=0.00218, 2500=0.00189, 5000=0.00156 (EUR); Composition: Thick Film; Features: Moisture Resistant; Operating Temperature: -55°C ~ 155°C; Supplier Device Package: 0402; Size / Dimension: 0.039" L x 0.020" W (1.00mm x 0.50mm); Height - Seated (Max): 0.016" (0.40mm); Number of Terminations: 2; Failure Rate: -; ComponentLink2URL: http://www.yageo.com/NewPortal/yageodocoutput?fileName=/pdf/R-Chip/PYu-RC_Group_51_RoHS_L_4.pdf; ComponentLink2Description: http://www.yageo.com/NewPortal/yageodocoutput?fileName=/pdf/R-Chip/PYu-RC_Group_51_RoHS_L_4.pdf; Manufacturer 1: EPCOS (TDK); Manufacturer Part Number 1: B39921B3728U410
footprint B39871B3717U410 (SAW RF filter)
pins: 1 GND, 2 IN, 3 GND, 4 GND, 5 OUT, 6 GND

## BAT41KFILM
designator D?, comment Bat41
DIODE SCHOTTKY 100V 200MA SOD523; Manufacturer: STMicroelectronics; Manufacturer Part Number: BAT41KFILM; Current - Average Rectified (Io): 200mA (DC); Speed: Small Signal =< 200mA (Io), Any Speed; Capacitance @ Vr, F: 10pF @ 1V, 1MHz; Supplier 1: Digi-Key; Supplier Part Number 1: 497-5556-1-ND; RoHS: RoHS Compliant; Category: Discrete Semiconductor Products; Stock: 48360; Pricing: 1=0.3, 10=0.242, 100=0.1646, 500=0.12342, 1000=0.09257 (EUR); Packaging: Cut Tape (CT); Part Status: Active; Diode Type: Schottky; Mounting Type: Surface Mount; Package / Case: SC-79, SOD-523; Supplier Device Package: SOD-523; Operating Temperature - Junction: 150°C (Max); Base Part Number: BAT41K; ComponentLink1URL: http://www.st.com/content/ccc/resource/technical/document/datasheet/5b/cd/d8/0a/45/56/41/6c/CD00130227.pdf/files/CD00130227.pdf/jcr:content/translations/en.CD00130227.pdf; ComponentLink1Description: http://www.st.com/content/ccc/resource/technical/document/datasheet/5b/cd/d8/0a/45/56/41/6c/CD00130227.pdf/files/CD00130227.pdf/jcr:content/translations/en.CD00130227.pdf
footprint SOD-523
pins: 1 A, 2 K

## BAT60JFILM
designator D?
DIODE SCHOTTKY 10V 3A SOD323; Manufacturer: STMicroelectronics; Current - Average Rectified (Io): 3A (DC); Voltage - Forward (Vf) (Max) @ If: 580mV @ 1A; Speed: Fast Recovery =< 500ns, > 200mA (Io); Current - Reverse Leakage @ Vr: 6µA @ 10V; Supplier 1: Digi-Key; Supplier Part Number 1: 497-3707-1-ND; Manufacturer Part Number: BAT60JFILM; RoHS: RoHS Compliant; Category: Discrete Semiconductor Products; Stock 1: 568; Pricing 1: 1=0.38, 10=0.285, 100=0.1611, 500=0.10674, 1000=0.08183 (EUR); Packaging: Cut Tape (CT); Part Status: Active; Diode Type: Schottky; Voltage - DC Reverse (Vr) (Max): 10V; Reverse Recovery Time (trr): -; Capacitance @ Vr, F: -; Mounting Type: Surface Mount; Package / Case: SC-76, SOD-323; Supplier Device Package: SOD-323; Operating Temperature - Junction: 150°C (Max); ComponentLink1URL: http://www.st.com/content/ccc/resource/technical/document/datasheet/3d/d2/27/1d/20/e3/4d/48/CD00001944.pdf/files/CD00001944.pdf/jcr:content/translations/en.CD00001944.pdf; ComponentLink1Description: http://www.st.com/content/ccc/resource/technical/document/datasheet/3d/d2/27/1d/20/e3/4d/48/CD00001944.pdf/files/CD00001944.pdf/jcr:content/translations/en.CD00001944.pdf
footprint SOD-232 (Testpoint)
pins: 1 A, 2 K

## BD0810J50100AHF
designator T?, comment BD0810J50100A00
XFRMR BALUN RF 800-1000MHZ 0805; Manufacturer: Anaren; Manufacturer Part Number: BD0810J50100AHF; Frequency Range: 800MHz ~ 1GHz; Impedance - Unbalanced/Balanced: 50 / 100 Ohm; Phase Difference: 1°; Insertion Loss (Max): 0.95dB; Return Loss (Min): 13dB; Supplier Part Number 1: 1173-1056-2-ND; Supplier 1: Digi-Key; Supplier Part Number 2: 1173-1056-1-ND; RoHS: RoHS Compliant; Category: RF/IF and RFID; Stock: 9830; Pricing: 1=0.6, 10=0.587, 25=0.3928, 50=0.3494, 100=0.3201, 250=0.28724, 500=0.28124 (EUR); Packaging: Cut Tape (CT); Part Status: Active; Package / Case: 0805 (2012 Metric); Mounting Type: Surface Mount; ComponentLink1URL: https://cdn.anaren.com/product-documents/Xinger/BalunTransformers/BD0810J50100AHF/BD0810J50100AHF_DataSheet(Rev_E).pdf; ComponentLink1Description: https://cdn.anaren.com/product-documents/Xinger/BalunTransformers/BD0810J50100AHF/BD0810J50100AHF_DataSheet(Rev_E).pdf
footprint BD0810J50100AHF (RF Balun 800MHz ~ 1GHz 50 / 100 Ohm 0805)
pins: 1 UB, 2 GND, 3 B1, 4 B2, 5 GND, 6 NC

## BEC_1x9_wide
designator J?, comment Board Edge Contact 11_THMD
Pin_Header_x1; ComponentLink1URL: http://katalog.we-online.de/em/datasheet/6130xx11121.pdf; ComponentLink1Description: http://katalog.we-online.de/em/datasheet/6130xx11121.pdf
footprint BEC_1x9_wide (Board Edge Connector)
pins: 1, 2, 3, 4, 5, 6, 7, 8, 9

## BEC_1x11
designator J?, comment Board Edge Contact 11_THMD
Pin_Header_x1; ComponentLink1URL: http://katalog.we-online.de/em/datasheet/6130xx11121.pdf; ComponentLink1Description: http://katalog.we-online.de/em/datasheet/6130xx11121.pdf
footprint BEC_1x11 (Board Edge Connector)
pins: 1, 2, 3, 4, 5, 6, 7, 8, 9, 10, 11

## BEC_1x11_1
designator J?, comment Board Edge Contact 11_THMD
Pin_Header_x1; ComponentLink1URL: http://katalog.we-online.de/em/datasheet/6130xx11121.pdf; ComponentLink1Description: http://katalog.we-online.de/em/datasheet/6130xx11121.pdf
footprint BEC_2x11 (Board Edge Connector)
pins: 1, 2, 3, 4, 5, 6, 7, 8, 9, 10, 11

## BLE113-A-M256K
designator IC?, comment BLE - DNP
RF TXRX MOD BLUETOOTH CHIP ANT; Manufacturer: Silicon Labs; Manufacturer Part Number: BLE113-A-M256K; Protocol: Bluetooth v4.0; Frequency: 2.4GHz; Data Rate: 2Mbps; Power - Output: 0dBm; Sensitivity: -93dBm; Serial Interfaces: ISP, PWM, SPI, UART; Antenna Type: Integrated, Chip; Memory Size: 256kB Flash, 8kB SRAM; Voltage - Supply: 2 V ~ 3.6 V; Current - Receiving: 14.3mA; Current - Transmitting: 18.2mA; Supplier 1: Digi-Key; Supplier Part Number 1: 1446-1035-1-ND; RoHS: RoHS Compliant; Category: RF/IF and RFID; Stock 1: 13346; Pricing 1: 1=10.64, 10=9.627, 25=8.8668, 100=8.1069, 250=7.60024, 500=7.09356 (EUR); Packaging: Cut Tape (CT); Part Status: Active; RF Family/Standard: Bluetooth; Modulation: -; Mounting Type: Surface Mount; Operating Temperature: -40°C ~ 85°C; Package / Case: Module; ComponentLink1URL: http://media.digikey.com/pdf/Data%20Sheets/BlueGiga%20PDFs/BLE113_DS_V1.45.pdf; ComponentLink1Description: http://media.digikey.com/pdf/Data%20Sheets/BlueGiga%20PDFs/BLE113_DS_V1.45.pdf
footprint BLE113
pins: 1 GND (power), 2 GND, 3 GND, 4 GND, 5 GND, 6 GND, 7 GND, 8 AVDD, 9 P2_2, 10 P2_1, 11 P2_0 (power), 12 P1_7, 13 P1_6, 14 SCL, 15 SDA, 16 NC, 17 DVDD, 18 GND, 19 P1_5, 20 P1_4, 21 P1_3, 22 P1_2, 23 P1_1, 24 P1_0, 25 GND, 26 P0_7, 27 P0_6, 28 P0_5, 29 P0_4, 30 P0_3, 31 P0_2, 32 P0_1, 33 P0_0, 34 Reset#, 35 NC, 36 GND

## BLM15HG102SN1D
designator FB?, comment 1k
FERRITE BEAD 1 KOHM 0402 1LN; Manufacturer: Murata Electronics North America; Manufacturer Part Number: BLM15HG102SN1D; Filter Type: Signal Line; Number of Lines: 1; Impedance @ Frequency: 1 kOhm @ 100MHz; Current Rating (Max): 250mA; DC Resistance (DCR) (Max): 1.1 Ohm; Supplier 1: Digi-Key; Supplier Part Number 1: 490-3999-1-ND; RoHS: RoHS Compliant; Category: Filters; Stock: 335865; Pricing: 1=0.16, 10=0.123, 25=0.102, 50=0.088, 100=0.0792, 250=0.06688, 500=0.05984, 1000=0.05104, 5000=0.04752 (EUR); Packaging: Cut Tape (CT); Part Status: Active; Ratings: -; Operating Temperature: -55°C ~ 125°C; Package / Case: 0402 (1005 Metric); Mounting Type: Surface Mount; Height (Max): 0.022" (0.55mm); Size / Dimension: 0.039" L x 0.020" W (1.00mm x 0.50mm); ComponentLink1URL: http://www.murata.com/en-global/products/productdata/8796740223006/ENFA0024.pdf; ComponentLink1Description: http://www.murata.com/en-global/products/productdata/8796740223006/ENFA0024.pdf
footprint L0402-RF
pins: 1, 2

## BLM15PX121SN1D
designator FB?
FERRITE BEAD 120 OHM 0402 1LN; Manufacturer: Murata Electronics North America; Manufacturer Part Number: BLM15PX121SN1D; Filter Type: Power Line; Current Rating (Max): 2A; DC Resistance (DCR) (Max): 55 mOhm; Supplier 1: Digi-Key; Supplier Part Number 1: 490-9656-1-ND; RoHS: RoHS Compliant; Category: Filters; Stock: 5974; Pricing: 1=0.13, 10=0.108, 25=0.0836, 50=0.0692, 100=0.0596, 250=0.04772, 500=0.04294, 1000=0.03578, 5000=0.0334 (EUR); Packaging: Cut Tape (CT); Part Status: Active; Ratings: -; Operating Temperature: -55°C ~ 125°C; Package / Case: 0402 (1005 Metric); Mounting Type: Surface Mount; Height (Max): 0.022" (0.55mm); Size / Dimension: 0.039" L x 0.020" W (1.00mm x 0.50mm); ComponentLink1URL: https://www.murata.com/en-us/products/productdata/8796740059166/ENFA0018.pdf; ComponentLink1Description: https://www.murata.com/en-us/products/productdata/8796740059166/ENFA0018.pdf
footprint L0402-RF
pins: 1, 2

## BLM15PX331SN1D
designator FB?, comment 330R
FERRITE BEAD 330 OHM 0402 1LN; Manufacturer: Murata Electronics North America; Manufacturer Part Number: BLM15PX331SN1D; Filter Type: Power Line; Current Rating (Max): 1.2A; DC Resistance (DCR) (Max): 150 mOhm; Supplier 1: Digi-Key; Supplier Part Number 1: 490-11022-1-ND; RoHS: RoHS Compliant; Category: Filters; Stock: 29501; Pricing: 1=0.13, 10=0.103, 25=0.08, 50=0.0662, 100=0.0571, 250=0.04568, 500=0.0411, 1000=0.03425, 5000=0.03196 (EUR); Packaging: Cut Tape (CT); Part Status: Active; Ratings: -; Operating Temperature: -55°C ~ 125°C; Package / Case: 0402 (1005 Metric); Mounting Type: Surface Mount; Height (Max): 0.022" (0.55mm); Size / Dimension: 0.039" L x 0.020" W (1.00mm x 0.50mm); ComponentLink1URL: https://www.murata.com/en-us/products/productdata/8796740059166/ENFA0018.pdf; ComponentLink1Description: https://www.murata.com/en-us/products/productdata/8796740059166/ENFA0018.pdf; Supplier 2: Digi-Key; Supplier Part Number 2: 490-9656-1-ND
footprint FB0402-RF (Ferrite Bead)
pins: 1, 2

## BLM18KG121TN1D
designator FB?, comment 120R 3A
FERRITE BEAD 120 OHM 0603 1LN; Manufacturer: Murata Electronics North America; Manufacturer Part Number: BLM18KG121TN1D; Filter Type: Power Line; Number of Lines: 1; Impedance @ Frequency: 120 Ohm @ 100MHz; DC Resistance (DCR) (Max): 30 mOhm; Capacitance: 1µF; Tolerance: ±20%; Voltage - Rated: 10V; Current: 4A; Supplier 1: Digi-Key; RoHS: RoHS Compliant; Category: Filters; Stock: 86188; Pricing 1: 1=0.09, 10=0.069, 25=0.0624, 50=0.0458, 100=0.0396, 250=0.03128, 500=0.02642, 1000=0.02224 (EUR); Packaging: Cut Tape (CT); Part Status: Active; Current Rating (Max): 3A; Ratings: -; Operating Temperature: -55°C ~ 125°C; Package / Case: 0603 (1608 Metric); Mounting Type: Surface Mount; Height (Max): 0.030" (0.75mm); Size / Dimension: 0.063" L x 0.032" W (1.60mm x 0.80mm); ComponentLink1URL: http://media.digikey.com/pdf/Data%20Sheets/Murata%20PDFs/BLM18yyyyyyN1x.pdf; ComponentLink1Description: http://media.digikey.com/pdf/Data%20Sheets/Murata%20PDFs/BLM18yyyyyyN1x.pdf; Supplier Part Number 1: 490-5254-1-ND; Supplier 2: Digi-Key; Pricing 2: 1=0.19, 10=0.182, 25=0.1736, 50=0.168, 100=0.1624, 250=0.15396, 500=0.12878, 1000=0.09994 (EUR); Insertion Loss: -; Temperature Coefficient: -; Thread Size: -; ComponentLink2URL: http://search.murata.co.jp/Ceramy/image/img/A01X/G101/ENG/NFM21PC105B1A3-01.pdf; ComponentLink2Description: http://search.murata.co.jp/Ceramy/image/img/A01X/G101/ENG/NFM21PC105B1A3-01.pdf; Supplier Part Number 2: 490-6980-1-ND
footprint FB0603-RF
pins: 1, 2

## C0603X5R0J224K030BB
designator C?, comment 220nF
CAP CER 0.22UF 6.3V X5R 0201; Manufacturer: TDK; Manufacturer Part Number: C0603X5R0J224K030BB; Dielectric Material: Ceramic; Tolerance: 10%; P1dB: 37dBm; Impedance: 50R; Throw Configuration: SP4T; IIP3: 70dBm; Supplier 1: Mouser; Supplier Part Number 1: 810-C0603X5R0J224KBB; Stock: 0; Pricing: 1=0.16, 10=0.11, 50=0.11, 100=0.044, 1000=0.03, 10000=0.023 (USD); Mount: Surface Mount; Case/Package: 0201; Weight: 6E-06oz; Case Code (Metric): 0603; Case Code (Imperial): 0201; Min Operating Temperature: -55°C; Max Operating Temperature: 85°C; Capacitance: 220nF; Voltage Rating: 6.3V; Packaging: Tape and Reel; Termination: SMD/SMT; Dielectric: X5R; Voltage Rating (DC): 6.3V; Package Quantity: 1; Voltage: 6.3V; Dissipation Factor: 10%; Length: 0.6mm; Height: 0.3mm; Depth: 0.3mm; Width: 0.012inch; Thickness: 0.013inch; Lead Free: Lead Free; REACH SVHC: No SVHC; ComponentLink1URL: https://datasheet.ciiva.com/6251/tdkmlcccaprange-6251014.pdf; ComponentLink1Description: https://datasheet.ciiva.com/6251/tdkmlcccaprange-6251014.pdf; ComponentLink2URL: https://datasheet.ciiva.com/23802/1796654-23802491.pdf; ComponentLink2Description: https://datasheet.ciiva.com/23802/1796654-23802491.pdf; ComponentLink3URL: https://datasheet.ciiva.com/22725/1913358-22725389.pdf; ComponentLink3Description: https://datasheet.ciiva.com/22725/1913358-22725389.pdf; ComponentLink4URL: https://datasheet.ciiva.com/22725/1913358-22725390.pdf; ComponentLink4Description: https://datasheet.ciiva.com/22725/1913358-22725390.pdf; ComponentLink5URL: https://datasheet.ciiva.com/16425/e412-c-16425759.pdf; ComponentLink5Description: https://datasheet.ciiva.com/16425/e412-c-16425759.pdf; Supplier 2: Digi-Key; Supplier Part Number 2: 863-1582-6-ND; ComponentLink6URL: https://datasheet.ciiva.com/15309/sky13414-485lf-201689g-231640-15309794.pdf; ComponentLink6Description: https://datasheet.ciiva.com/15309/sky13414-485lf-201689g-231640-15309794.pdf
footprint C0201-RF
pins: 1, 2

## C0810J5003AHF
designator T?
COUPLER 90DEG 3BD 800-1000MHZ; Manufacturer: Anaren; Coupler Type: Standard; Frequency: 800MHz ~ 1GHz; Coupling Factor: 3dB; Insertion Loss: 0.5dB; Power - Max: 4W; Isolation: 23dB; Return Loss: 31dB; Capacitance: 100pF; Tolerance: ±1%; Voltage - Rated: 25V; Temperature Coefficient: C0G, NP0; Exact Component Match: yes; Supplier 1: Digi-Key; Supplier Part Number 1: 1173-1075-1-ND; Manufacturer Part Number: C0810J5003AHF; RoHS: RoHS Compliant; Category: RF/IF and RFID; Stock 1: 10259; Pricing 1: 1=0.72, 10=0.643, 25=0.5672, 100=0.5104, 250=0.44428, 500=0.39698 (EUR); Packaging: Cut Tape (CT); Part Status: Active; Applications: CDMA, WCDMA; Package / Case: 0805 (2012 Metric); Supplier Device Package: 0805 (2012 Metric); ComponentLink1URL: https://www.anaren.com/sites/default/files/Part-Datasheets/C0810J5003AHF_Datasheet_RevC.pdf; ComponentLink1Description: https://www.anaren.com/sites/default/files/Part-Datasheets/C0810J5003AHF_Datasheet_RevC.pdf; Supplier 2: Digi-Key; Supplier Part Number 2: 399-11246-2-ND; Stock 2: 70000; Pricing 2: 10000=0.07994, 20000=0.07744, 30000=0.07494, 50000=0.06995, 100000=0.06495 (EUR); Operating Temperature: -55°C ~ 125°C; Features: High Q, Low Loss; Ratings: -; Failure Rate: -; Mounting Type: Surface Mount, MLCC; Size / Dimension: 0.039" L x 0.020" W (1.00mm x 0.50mm); Height - Seated (Max): -; Thickness (Max): 0.022" (0.55mm); Lead Spacing: -; Lead Style: -; ComponentLink2URL: http://www.kemet.com/docfinder?Partnumber=CBR04C101F3GAC; ComponentLink2Description: http://www.kemet.com/docfinder?Partnumber=CBR04C101F3GAC; Manufacturer 1: Anaren; Manufacturer Part Number 1: C0810J5003AHF
footprint C0810J50003AHF (3dB 90° Hybrid Coupler)
pins: 1 Input, 2 GND, 3 Isolated, 4 Direct, 5 GND, 6 Coupled

## C0810J5003AHF_1
designator T?
COUPLER 90DEG 3BD 800-1000MHZ; Manufacturer: Anaren; Manufacturer Part Number: C0810J5003AHF; Coupler Type: Standard; Frequency: 800MHz ~ 1GHz; Coupling Factor: 3dB; Insertion Loss: 0.5dB; Power - Max: 4W; Isolation: 23dB; Return Loss: 31dB; Capacitance: 100pF; Tolerance: ±1%; Voltage - Rated: 25V; Temperature Coefficient: C0G, NP0; Supplier 1: Digi-Key; Supplier Part Number 1: 1173-1075-1-ND; RoHS: RoHS Compliant; Category: RF/IF and RFID; Stock 1: 10259; Pricing 1: 1=0.72, 10=0.643, 25=0.5672, 100=0.5104, 250=0.44428, 500=0.39698 (EUR); Packaging: Cut Tape (CT); Part Status: Active; Applications: CDMA, WCDMA; Package / Case: 0805 (2012 Metric); Supplier Device Package: 0805 (2012 Metric); ComponentLink1URL: https://www.anaren.com/sites/default/files/Part-Datasheets/C0810J5003AHF_Datasheet_RevC.pdf; ComponentLink1Description: https://www.anaren.com/sites/default/files/Part-Datasheets/C0810J5003AHF_Datasheet_RevC.pdf; Supplier 2: Digi-Key; Supplier Part Number 2: 399-11246-2-ND; Stock 2: 70000; Pricing 2: 10000=0.07994, 20000=0.07744, 30000=0.07494, 50000=0.06995, 100000=0.06495 (EUR); Operating Temperature: -55°C ~ 125°C; Features: High Q, Low Loss; Ratings: -; Failure Rate: -; Mounting Type: Surface Mount, MLCC; Size / Dimension: 0.039" L x 0.020" W (1.00mm x 0.50mm); Height - Seated (Max): -; Thickness (Max): 0.022" (0.55mm); Lead Spacing: -; Lead Style: -; ComponentLink2URL: http://www.kemet.com/docfinder?Partnumber=CBR04C101F3GAC; ComponentLink2Description: http://www.kemet.com/docfinder?Partnumber=CBR04C101F3GAC; Supplier 3: Digi-Key; Supplier Part Number 3: 1798-1197-1-ND; Stock: 0; Mount: Surface Mount; Package Quantity: 300; ComponentLink3URL: https://datasheet.ciiva.com/26992/lt-sms-product-profile-469544-26992425.pdf; ComponentLink3Description: https://datasheet.ciiva.com/26992/lt-sms-product-profile-469544-26992425.pdf
footprint C0810J50003AHF (3dB 90° Hybrid Coupler)
pins: 1 Input, 2 GND, 3 Isolated, 4 Direct, 5 GND, 6 Coupled
text: 90°